# EAGLE library part DEV13473 (library specialparts)
SD Card Writer Level Shifting SparkFun DEV13743
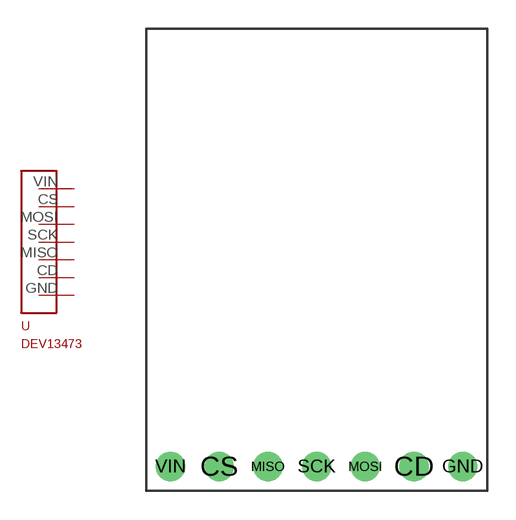
[diagram p5: symbol with the pads of DEV13743; footprint DEV13743]

Designator prefix -

## DEV13473  [DEV13743]
CD  CD
CS  CS
GND  GND
MISO  MISO
MOSI  MOSI
SCK  SCK
VIN  VIN

## Footprint DEV13743 (pad centres in mm)
drill 1.016: CD 12.7,0; CS 2.54,0; GND 15.24,0; MISO 5.08,0; MOSI 10.16,0; SCK 7.62,0; VIN 0,0